# Altium footprint library PIC32MX230F064D-IML.PcbLib: 3 footprints
Each footprint in its own frame and in the unit in brackets; x right, y up, seen from the top. Pads: shape width x height; smd on the part's side, far side on the other; paste and mask are expansions set on the pad; w line width, h text height; cw(c..) or ccw(c..) is an arc to the next point about the centre after c.
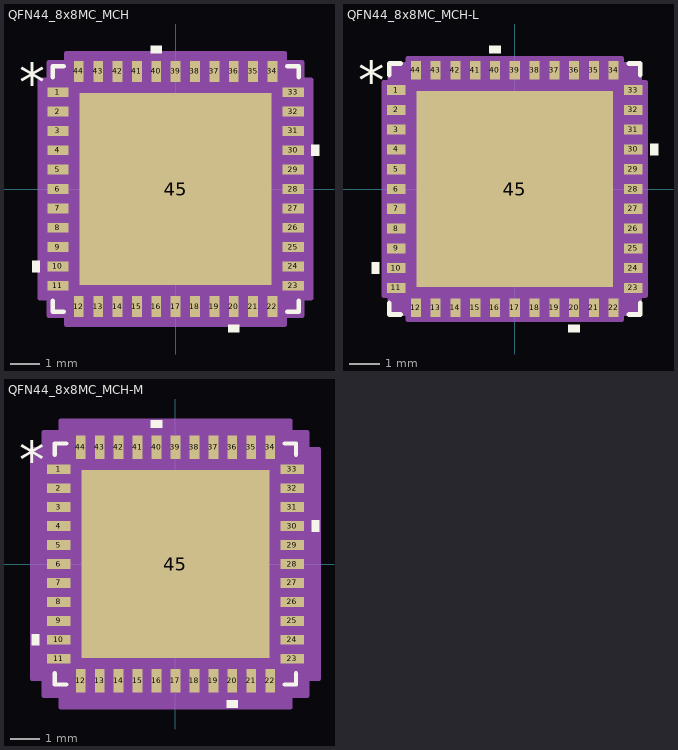
[diagram p0: the footprints below, top view; thin cyan lines are the x and y axes]

## QFN44_8x8MC_MCH [mil]
pads (45):
  rect 28x13 smd paste+0 mask+0: 1(-155.5,127.95) 2(-155.5,102.36) 3(-155.5,76.77) 4(-155.5,51.18) 5(-155.5,25.59) 6(-155.5,0) 7(-155.5,-25.59) 8(-155.5,-51.18) 9(-155.5,-76.77) 10(-155.5,-102.36) 11(-155.5,-127.95) 23(155.5,-127.95) 24(155.5,-102.36) 25(155.5,-76.77) 26(155.5,-51.18) 27(155.5,-25.59) 28(155.5,0) 29(155.5,25.59) 30(155.5,51.18) 31(155.5,76.77) 32(155.5,102.36) 33(155.5,127.95)
  rect 13x28 smd paste+0 mask+0: 12(-127.95,-155.5) 13(-102.36,-155.5) 14(-76.77,-155.5) 15(-51.18,-155.5) 16(-25.59,-155.5) 17(0,-155.5) 18(25.59,-155.5) 19(51.18,-155.5) 20(76.77,-155.5) 21(102.36,-155.5) 22(127.95,-155.5) 34(127.95,155.5) 35(102.36,155.5) 36(76.77,155.5) 37(51.18,155.5) 38(25.59,155.5) 39(0,155.5) 40(-25.59,155.5) 41(-51.18,155.5) 42(-76.77,155.5) 43(-102.36,155.5) 44(-127.95,155.5)
  rect 254x254 smd paste-127 mask+0: 45(0,0)
Top Overlay:
  region: -179.5,-94.86 -189.5,-94.86 -189.5,-109.86 -179.5,-109.86
  region: 84.27,-179.5 69.27,-179.5 69.27,-189.5 84.27,-189.5
  region: 179.5,58.68 189.5,58.68 189.5,43.68 179.5,43.68
  region: -18.09,179.5 -33.09,179.5 -33.09,189.5 -18.09,189.5
  lines w6: -162.5,-147.55 -162.5,-162.5 -147.55,-162.5 ; -162.5,147.55 -162.5,162.5 -147.55,162.5 ; 147.55,-162.5 162.5,-162.5 162.5,-147.55 ; 147.55,162.5 162.5,162.5 162.5,147.55
  text "*" at -207,115.75 h50
Top Paste:
  region: -80.14,123.06 -123.06,123.06 -123.06,80.14 -80.14,80.14
  region: -80.14,72.26 -123.06,72.26 -123.06,29.34 -80.14,29.34
  region: -80.14,21.46 -123.06,21.46 -123.06,-21.46 -80.14,-21.46
  region: -80.14,-29.34 -123.06,-29.34 -123.06,-72.26 -80.14,-72.26
  region: -80.14,-80.14 -123.06,-80.14 -123.06,-123.06 -80.14,-123.06
  region: -29.34,123.06 -72.26,123.06 -72.26,80.14 -29.34,80.14
  region: -29.34,72.26 -72.26,72.26 -72.26,29.34 -29.34,29.34
  region: -29.34,21.46 -72.26,21.46 -72.26,-21.46 -29.34,-21.46
  region: -29.34,-29.34 -72.26,-29.34 -72.26,-72.26 -29.34,-72.26
  region: -29.34,-80.14 -72.26,-80.14 -72.26,-123.06 -29.34,-123.06
  region: 21.46,123.06 -21.46,123.06 -21.46,80.14 21.46,80.14
  region: 21.46,72.26 -21.46,72.26 -21.46,29.34 21.46,29.34
  region: 21.46,21.46 -21.46,21.46 -21.46,-21.46 21.46,-21.46
  region: 21.46,-29.34 -21.46,-29.34 -21.46,-72.26 21.46,-72.26
  region: 21.46,-80.14 -21.46,-80.14 -21.46,-123.06 21.46,-123.06
  region: 72.26,123.06 29.34,123.06 29.34,80.14 72.26,80.14
  region: 72.26,72.26 29.34,72.26 29.34,29.34 72.26,29.34
  region: 72.26,21.46 29.34,21.46 29.34,-21.46 72.26,-21.46
  region: 72.26,-29.34 29.34,-29.34 29.34,-72.26 72.26,-72.26
  region: 72.26,-80.14 29.34,-80.14 29.34,-123.06 72.26,-123.06
  region: 123.06,123.06 80.14,123.06 80.14,80.14 123.06,80.14
  region: 123.06,72.26 80.14,72.26 80.14,29.34 123.06,29.34
  region: 123.06,21.46 80.14,21.46 80.14,-21.46 123.06,-21.46
  region: 123.06,-29.34 80.14,-29.34 80.14,-72.26 123.06,-72.26
  region: 123.06,-80.14 80.14,-80.14 80.14,-123.06 123.06,-123.06
Mechanical 13:
  drawing of 185 lines, arcs and shapes, not listed
  text "*" at -154,115.75 h50
Mechanical 15:
  region: -144.45,-167.5 -167.5,-167.5 -167.5,-144.45 -179.5,-144.45 -179.5,144.45 -167.5,144.45 -167.5,167.5 -144.45,167.5 -144.45,179.5 144.45,179.5 144.45,167.5 167.5,167.5 167.5,144.45 179.5,144.45 179.5,-144.45 167.5,-144.45 167.5,-167.5 144.45,-167.5 144.45,-179.5 -144.45,-179.5
  lines w6: -179.5,-144.45 -167.5,-144.45 -167.5,-167.5 -144.45,-167.5 -144.45,-179.5 144.45,-179.5 144.45,-167.5 167.5,-167.5 167.5,-144.45 179.5,-144.45 179.5,144.45 167.5,144.45 167.5,167.5 144.45,167.5 144.45,179.5 -144.45,179.5 -144.45,167.5 -167.5,167.5 -167.5,144.45 -179.5,144.45 -179.5,-144.45
3D body "QFN44_8x8MC_MCH.step": height 39.09, standoff 0, extent -157.48,-157.48 157.48,157.48

## QFN44_8x8MC_MCH-L [mil]
pads (45):
  rect 24x13 smd paste+0 mask+0: 1(-153.5,127.95) 2(-153.5,102.36) 3(-153.5,76.77) 4(-153.5,51.18) 5(-153.5,25.59) 6(-153.5,0) 7(-153.5,-25.59) 8(-153.5,-51.18) 9(-153.5,-76.77) 10(-153.5,-102.36) 11(-153.5,-127.95) 23(153.5,-127.95) 24(153.5,-102.36) 25(153.5,-76.77) 26(153.5,-51.18) 27(153.5,-25.59) 28(153.5,0) 29(153.5,25.59) 30(153.5,51.18) 31(153.5,76.77) 32(153.5,102.36) 33(153.5,127.95)
  rect 13x24 smd paste+0 mask+0: 12(-127.95,-153.5) 13(-102.36,-153.5) 14(-76.77,-153.5) 15(-51.18,-153.5) 16(-25.59,-153.5) 17(0,-153.5) 18(25.59,-153.5) 19(51.18,-153.5) 20(76.77,-153.5) 21(102.36,-153.5) 22(127.95,-153.5) 34(127.95,153.5) 35(102.36,153.5) 36(76.77,153.5) 37(51.18,153.5) 38(25.59,153.5) 39(0,153.5) 40(-25.59,153.5) 41(-51.18,153.5) 42(-76.77,153.5) 43(-102.36,153.5) 44(-127.95,153.5)
  rect 254x254 smd paste-127 mask+0: 45(0,0)
Top Overlay:
  region: -175.5,-94.86 -185.5,-94.86 -185.5,-109.86 -175.5,-109.86
  region: 84.27,-175.5 69.27,-175.5 69.27,-185.5 84.27,-185.5
  region: 175.5,58.68 185.5,58.68 185.5,43.68 175.5,43.68
  region: -18.09,175.5 -33.09,175.5 -33.09,185.5 -18.09,185.5
  lines w6: -162.5,-147.55 -162.5,-162.5 -147.55,-162.5 ; -162.5,147.55 -162.5,162.5 -147.55,162.5 ; 147.55,-162.5 162.5,-162.5 162.5,-147.55 ; 147.55,162.5 162.5,162.5 162.5,147.55
  text "*" at -203,115.75 h50
Top Paste:
  region: -80.14,123.06 -123.06,123.06 -123.06,80.14 -80.14,80.14
  region: -80.14,72.26 -123.06,72.26 -123.06,29.34 -80.14,29.34
  region: -80.14,21.46 -123.06,21.46 -123.06,-21.46 -80.14,-21.46
  region: -80.14,-29.34 -123.06,-29.34 -123.06,-72.26 -80.14,-72.26
  region: -80.14,-80.14 -123.06,-80.14 -123.06,-123.06 -80.14,-123.06
  region: -29.34,123.06 -72.26,123.06 -72.26,80.14 -29.34,80.14
  region: -29.34,72.26 -72.26,72.26 -72.26,29.34 -29.34,29.34
  region: -29.34,21.46 -72.26,21.46 -72.26,-21.46 -29.34,-21.46
  region: -29.34,-29.34 -72.26,-29.34 -72.26,-72.26 -29.34,-72.26
  region: -29.34,-80.14 -72.26,-80.14 -72.26,-123.06 -29.34,-123.06
  region: 21.46,123.06 -21.46,123.06 -21.46,80.14 21.46,80.14
  region: 21.46,72.26 -21.46,72.26 -21.46,29.34 21.46,29.34
  region: 21.46,21.46 -21.46,21.46 -21.46,-21.46 21.46,-21.46
  region: 21.46,-29.34 -21.46,-29.34 -21.46,-72.26 21.46,-72.26
  region: 21.46,-80.14 -21.46,-80.14 -21.46,-123.06 21.46,-123.06
  region: 72.26,123.06 29.34,123.06 29.34,80.14 72.26,80.14
  region: 72.26,72.26 29.34,72.26 29.34,29.34 72.26,29.34
  region: 72.26,21.46 29.34,21.46 29.34,-21.46 72.26,-21.46
  region: 72.26,-29.34 29.34,-29.34 29.34,-72.26 72.26,-72.26
  region: 72.26,-80.14 29.34,-80.14 29.34,-123.06 72.26,-123.06
  region: 123.06,123.06 80.14,123.06 80.14,80.14 123.06,80.14
  region: 123.06,72.26 80.14,72.26 80.14,29.34 123.06,29.34
  region: 123.06,21.46 80.14,21.46 80.14,-21.46 123.06,-21.46
  region: 123.06,-29.34 80.14,-29.34 80.14,-72.26 123.06,-72.26
  region: 123.06,-80.14 80.14,-80.14 80.14,-123.06 123.06,-123.06
Mechanical 13:
  drawing of 185 lines, arcs and shapes, not listed
  text "*" at -154,115.75 h50
Mechanical 15:
  region: -138.45,-161.5 -161.5,-161.5 -161.5,-138.45 -169.5,-138.45 -169.5,138.45 -161.5,138.45 -161.5,161.5 -138.45,161.5 -138.45,169.5 138.45,169.5 138.45,161.5 161.5,161.5 161.5,138.45 169.5,138.45 169.5,-138.45 161.5,-138.45 161.5,-161.5 138.45,-161.5 138.45,-169.5 -138.45,-169.5
  lines w6: -169.5,-138.45 -161.5,-138.45 -161.5,-161.5 -138.45,-161.5 -138.45,-169.5 138.45,-169.5 138.45,-161.5 161.5,-161.5 161.5,-138.45 169.5,-138.45 169.5,138.45 161.5,138.45 161.5,161.5 138.45,161.5 138.45,169.5 -138.45,169.5 -138.45,161.5 -161.5,161.5 -161.5,138.45 -169.5,138.45 -169.5,-138.45
3D body "QFN44_8x8MC_MCH.step": height 39.09, standoff 0, extent -157.48,-157.48 157.48,157.48

## QFN44_8x8MC_MCH-M [mil]
pads (45):
  rect 32x13 smd paste+0 mask+0: 1(-157.5,127.95) 2(-157.5,102.36) 3(-157.5,76.77) 4(-157.5,51.18) 5(-157.5,25.59) 6(-157.5,0) 7(-157.5,-25.59) 8(-157.5,-51.18) 9(-157.5,-76.77) 10(-157.5,-102.36) 11(-157.5,-127.95) 23(157.5,-127.95) 24(157.5,-102.36) 25(157.5,-76.77) 26(157.5,-51.18) 27(157.5,-25.59) 28(157.5,0) 29(157.5,25.59) 30(157.5,51.18) 31(157.5,76.77) 32(157.5,102.36) 33(157.5,127.95)
  rect 13x32 smd paste+0 mask+0: 12(-127.95,-157.5) 13(-102.36,-157.5) 14(-76.77,-157.5) 15(-51.18,-157.5) 16(-25.59,-157.5) 17(0,-157.5) 18(25.59,-157.5) 19(51.18,-157.5) 20(76.77,-157.5) 21(102.36,-157.5) 22(127.95,-157.5) 34(127.95,157.5) 35(102.36,157.5) 36(76.77,157.5) 37(51.18,157.5) 38(25.59,157.5) 39(0,157.5) 40(-25.59,157.5) 41(-51.18,157.5) 42(-76.77,157.5) 43(-102.36,157.5) 44(-127.95,157.5)
  rect 254x254 smd paste-127 mask+0: 45(0,0)
Top Overlay:
  region: -183.5,-94.86 -193.5,-94.86 -193.5,-109.86 -183.5,-109.86
  region: 84.27,-183.5 69.27,-183.5 69.27,-193.5 84.27,-193.5
  region: 183.5,58.68 193.5,58.68 193.5,43.68 183.5,43.68
  region: -18.09,183.5 -33.09,183.5 -33.09,193.5 -18.09,193.5
  lines w6: -162.5,-147.55 -162.5,-162.5 -147.55,-162.5 ; -162.5,147.55 -162.5,162.5 -147.55,162.5 ; 147.55,-162.5 162.5,-162.5 162.5,-147.55 ; 147.55,162.5 162.5,162.5 162.5,147.55
  text "*" at -211,115.75 h50
Top Paste:
  region: -80.14,123.06 -123.06,123.06 -123.06,80.14 -80.14,80.14
  region: -80.14,72.26 -123.06,72.26 -123.06,29.34 -80.14,29.34
  region: -80.14,21.46 -123.06,21.46 -123.06,-21.46 -80.14,-21.46
  region: -80.14,-29.34 -123.06,-29.34 -123.06,-72.26 -80.14,-72.26
  region: -80.14,-80.14 -123.06,-80.14 -123.06,-123.06 -80.14,-123.06
  region: -29.34,123.06 -72.26,123.06 -72.26,80.14 -29.34,80.14
  region: -29.34,72.26 -72.26,72.26 -72.26,29.34 -29.34,29.34
  region: -29.34,21.46 -72.26,21.46 -72.26,-21.46 -29.34,-21.46
  region: -29.34,-29.34 -72.26,-29.34 -72.26,-72.26 -29.34,-72.26
  region: -29.34,-80.14 -72.26,-80.14 -72.26,-123.06 -29.34,-123.06
  region: 21.46,123.06 -21.46,123.06 -21.46,80.14 21.46,80.14
  region: 21.46,72.26 -21.46,72.26 -21.46,29.34 21.46,29.34
  region: 21.46,21.46 -21.46,21.46 -21.46,-21.46 21.46,-21.46
  region: 21.46,-29.34 -21.46,-29.34 -21.46,-72.26 21.46,-72.26
  region: 21.46,-80.14 -21.46,-80.14 -21.46,-123.06 21.46,-123.06
  region: 72.26,123.06 29.34,123.06 29.34,80.14 72.26,80.14
  region: 72.26,72.26 29.34,72.26 29.34,29.34 72.26,29.34
  region: 72.26,21.46 29.34,21.46 29.34,-21.46 72.26,-21.46
  region: 72.26,-29.34 29.34,-29.34 29.34,-72.26 72.26,-72.26
  region: 72.26,-80.14 29.34,-80.14 29.34,-123.06 72.26,-123.06
  region: 123.06,123.06 80.14,123.06 80.14,80.14 123.06,80.14
  region: 123.06,72.26 80.14,72.26 80.14,29.34 123.06,29.34
  region: 123.06,21.46 80.14,21.46 80.14,-21.46 123.06,-21.46
  region: 123.06,-29.34 80.14,-29.34 80.14,-72.26 123.06,-72.26
  region: 123.06,-80.14 80.14,-80.14 80.14,-123.06 123.06,-123.06
Mechanical 13:
  drawing of 185 lines, arcs and shapes, not listed
  text "*" at -154,115.75 h50
Mechanical 15:
  region: -154.45,-177.5 -177.5,-177.5 -177.5,-154.45 -193.5,-154.45 -193.5,154.45 -177.5,154.45 -177.5,177.5 -154.45,177.5 -154.45,193.5 154.45,193.5 154.45,177.5 177.5,177.5 177.5,154.45 193.5,154.45 193.5,-154.45 177.5,-154.45 177.5,-177.5 154.45,-177.5 154.45,-193.5 -154.45,-193.5
  lines w6: -193.5,-154.45 -177.5,-154.45 -177.5,-177.5 -154.45,-177.5 -154.45,-193.5 154.45,-193.5 154.45,-177.5 177.5,-177.5 177.5,-154.45 193.5,-154.45 193.5,154.45 177.5,154.45 177.5,177.5 154.45,177.5 154.45,193.5 -154.45,193.5 -154.45,177.5 -177.5,177.5 -177.5,154.45 -193.5,154.45 -193.5,-154.45
3D body "QFN44_8x8MC_MCH.step": height 39.09, standoff 0, extent -157.48,-157.48 157.48,157.48